# Altium footprint library JC-ESP32P4-M3.PcbLib: 1 footprints
Each footprint in its own frame and in the unit in brackets; x right, y up, seen from the top. Pads: shape width x height; smd on the part's side, far side on the other; paste and mask are expansions set on the pad; w line width, h text height; cw(c..) or ccw(c..) is an arc to the next point about the centre after c.
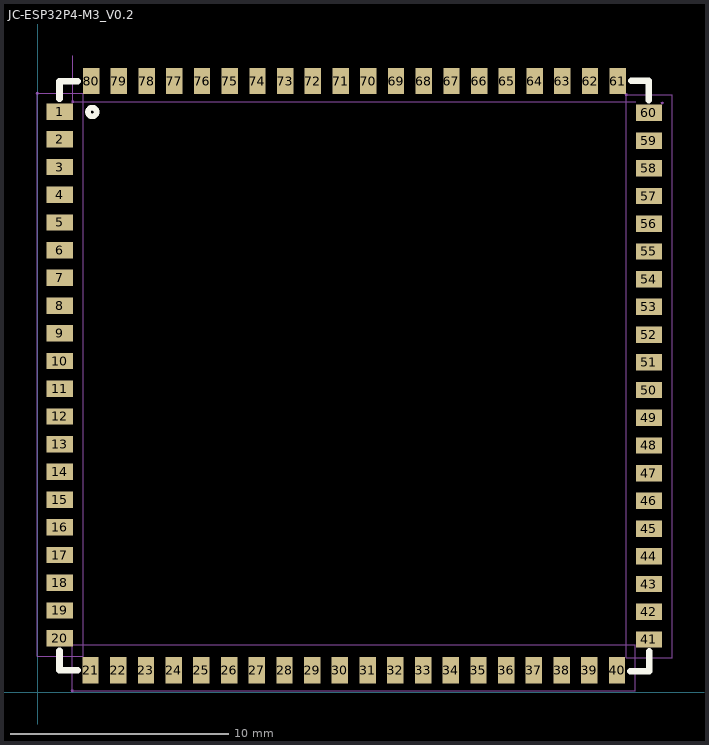
[diagram p0: the footprint, top view; thin cyan lines are the x and y axes]

## JC-ESP32P4-M3_V0.2 [mm]
pads (80):
  rect 1.2x0.75 smd: 1(1,26.6) 2(1,25.33) 3(1,24.06) 4(1,22.79) 5(1,21.52) 6(1,20.25) 7(1,18.98) 8(1,17.71) 9(1,16.44) 10(1,15.17) 11(1,13.9) 12(1,12.63) 13(1,11.36) 14(1,10.09) 15(1,8.82) 16(1,7.55) 17(1,6.28) 18(1,5.01) 19(1,3.74) 20(1,2.47) 41(28,2.41) 42(28,3.68) 43(28,4.95) 44(28,6.22) 45(28,7.49) 46(28,8.76) 47(28,10.03) 48(28,11.3) 49(28,12.57) 50(28,13.84) 51(28,15.11) 52(28,16.38) 53(28,17.65) 54(28,18.92) 55(28,20.19) 56(28,21.46) 57(28,22.73) 58(28,24) 59(28,25.27) 60(28,26.54)
  rect 0.75x1.2 smd: 21(2.41,1) 22(3.68,1) 23(4.95,1) 24(6.22,1) 25(7.49,1) 26(8.76,1) 27(10.03,1) 28(11.3,1) 29(12.57,1) 30(13.84,1) 31(15.11,1) 32(16.38,1) 33(17.65,1) 34(18.92,1) 35(20.19,1) 36(21.46,1) 37(22.73,1) 38(24,1) 39(25.27,1) 40(26.54,1) 61(26.57,28) 62(25.3,28) 63(24.03,28) 64(22.76,28) 65(21.49,28) 66(20.22,28) 67(18.95,28) 68(17.68,28) 69(16.41,28) 70(15.14,28) 71(13.87,28) 72(12.6,28) 73(11.33,28) 74(10.06,28) 75(8.79,28) 76(7.52,28) 77(6.25,28) 78(4.98,28) 79(3.71,28) 80(2.44,28)
Top Overlay:
  circle w0.254: c2.49,26.58 r0.2
  lines w0.3: 0.99,0.99 1.83,0.99 ; 0.99,1.08 0.99,1.89 ; 0.99,27.18 0.99,27.99 ; 1.08,27.99 1.83,27.99 ; 27.15,0.96 27.93,0.96 ; 27.18,28.02 27.99,28.02 ; 27.99,27.12 27.99,27.93 ; 28.02,0.96 28.02,1.86
Mechanical 15:
  drawing of 95 lines, arcs and shapes, not listed
3D body: height 2.01, standoff 0, extent 0.973,0.985 27.947,27.96